# Altium schematic symbol library CP2102N.SchLib: 2 symbols
Pins are listed as number, name and electrical type; pins without a type are passive.

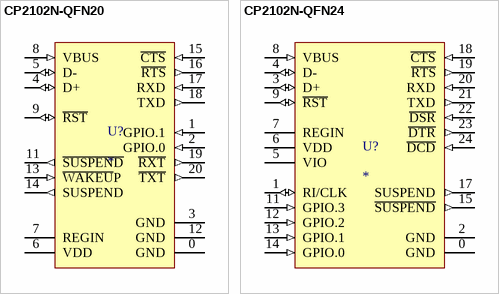
[diagram p0: symbols CP2102N-QFN20 to CP2102N-QFN24]

## CP2102N-QFN20
designator U?
pins: 0 GND (power) "Ground", 1 GPIO.1 (in) "Data Carrier Detect control input (active low)", 2 GPIO.0 (in) "Ring Indicator control input (active low)", 3 GND (power) "Ground", 4 D+ (io) "USB D+", 5 D- (io) "USB D-", 6 VDD (power) "3.0-3.6 V Power Supply Voltage Input. 3.3 V Voltage Regulator Output", 7 REGIN (power) "5 V Regulator Input. This pin is the input to the on-chip voltage regulator.", 8 VBUS (in) "VBUS Sense Input. This pin should be connected to the VBUS signal of a USB network. A 5 V signal on this pin indicates a USB network connection.", 9 ~{RST} (io) "Device Reset. Open-drain output of internal POR or VDD monitor. An external source can initiate a system reset by driving this pin low for at least 15 us.", 11 ~{SUSPEND} (out), 12 GND (power), 13 ~{WAKEU}P (in), 14 SUSPEND (out), 15 ~{CTS} (in) "Clear To Send control input (active low)", 16 ~{RTS} (out) "Ready to Send control output (active low)", 17 RXD (in) "Asynchronous data input (UART Receive)", 18 TXD (out) "Asynchronous data output (UART Transmit)", 19 ~{RXT} (out) "Data Set Ready control input (active low)", 20 ~{TXT} (out) "Data Set Ready control input (active low)"

## CP2102N-QFN24
designator U?
pins: 0 GND (power) "Ground", 1 RI/CLK (io) "Data Carrier Detect control input (active low)", 2 GND (power) "Ground", 3 D+ (io) "USB D+", 4 D- (io) "USB D-", 5 VIO (power) "3.0-3.6 V Power Supply Voltage Input. 3.3 V Voltage Regulator Output", 6 VDD (power) "3.0-3.6 V Power Supply Voltage Input. 3.3 V Voltage Regulator Output", 7 REGIN (power) "5 V Regulator Input. This pin is the input to the on-chip voltage regulator.", 8 VBUS (in) "VBUS Sense Input. This pin should be connected to the VBUS signal of a USB network. A 5 V signal on this pin indicates a USB network connection.", 9 ~{RST} (io) "Device Reset. Open-drain output of internal POR or VDD monitor. An external source can initiate a system reset by driving this pin low for at least 15 us.", 11 GPIO.3 (in), 12 GPIO.2 (in), 13 GPIO.1 (in), 14 GPIO.0 (in), 15 ~{SUSPEND} (out), 17 SUSPEND (out), 18 ~{CTS} (in) "Clear To Send control input (active low)", 19 ~{RTS} (out) "Ready to Send control output (active low)", 20 RXD (in) "Asynchronous data input (UART Receive)", 21 TXD (out) "Asynchronous data output (UART Transmit)", 22 ~{DSR} (in) "Asynchronous data input (UART Receive)", 23 ~{DTR} (out) "Asynchronous data output (UART Transmit)", 24 ~{DCD} (in) "Asynchronous data input (UART Receive)"